# Altium footprint library indic_footp.PcbLib: 13 footprints
Each footprint in its own frame and in the unit in brackets; x right, y up, seen from the top. Pads: shape width x height; smd on the part's side, far side on the other; paste and mask are expansions set on the pad; w line width, h text height; cw(c..) or ccw(c..) is an arc to the next point about the centre after c.
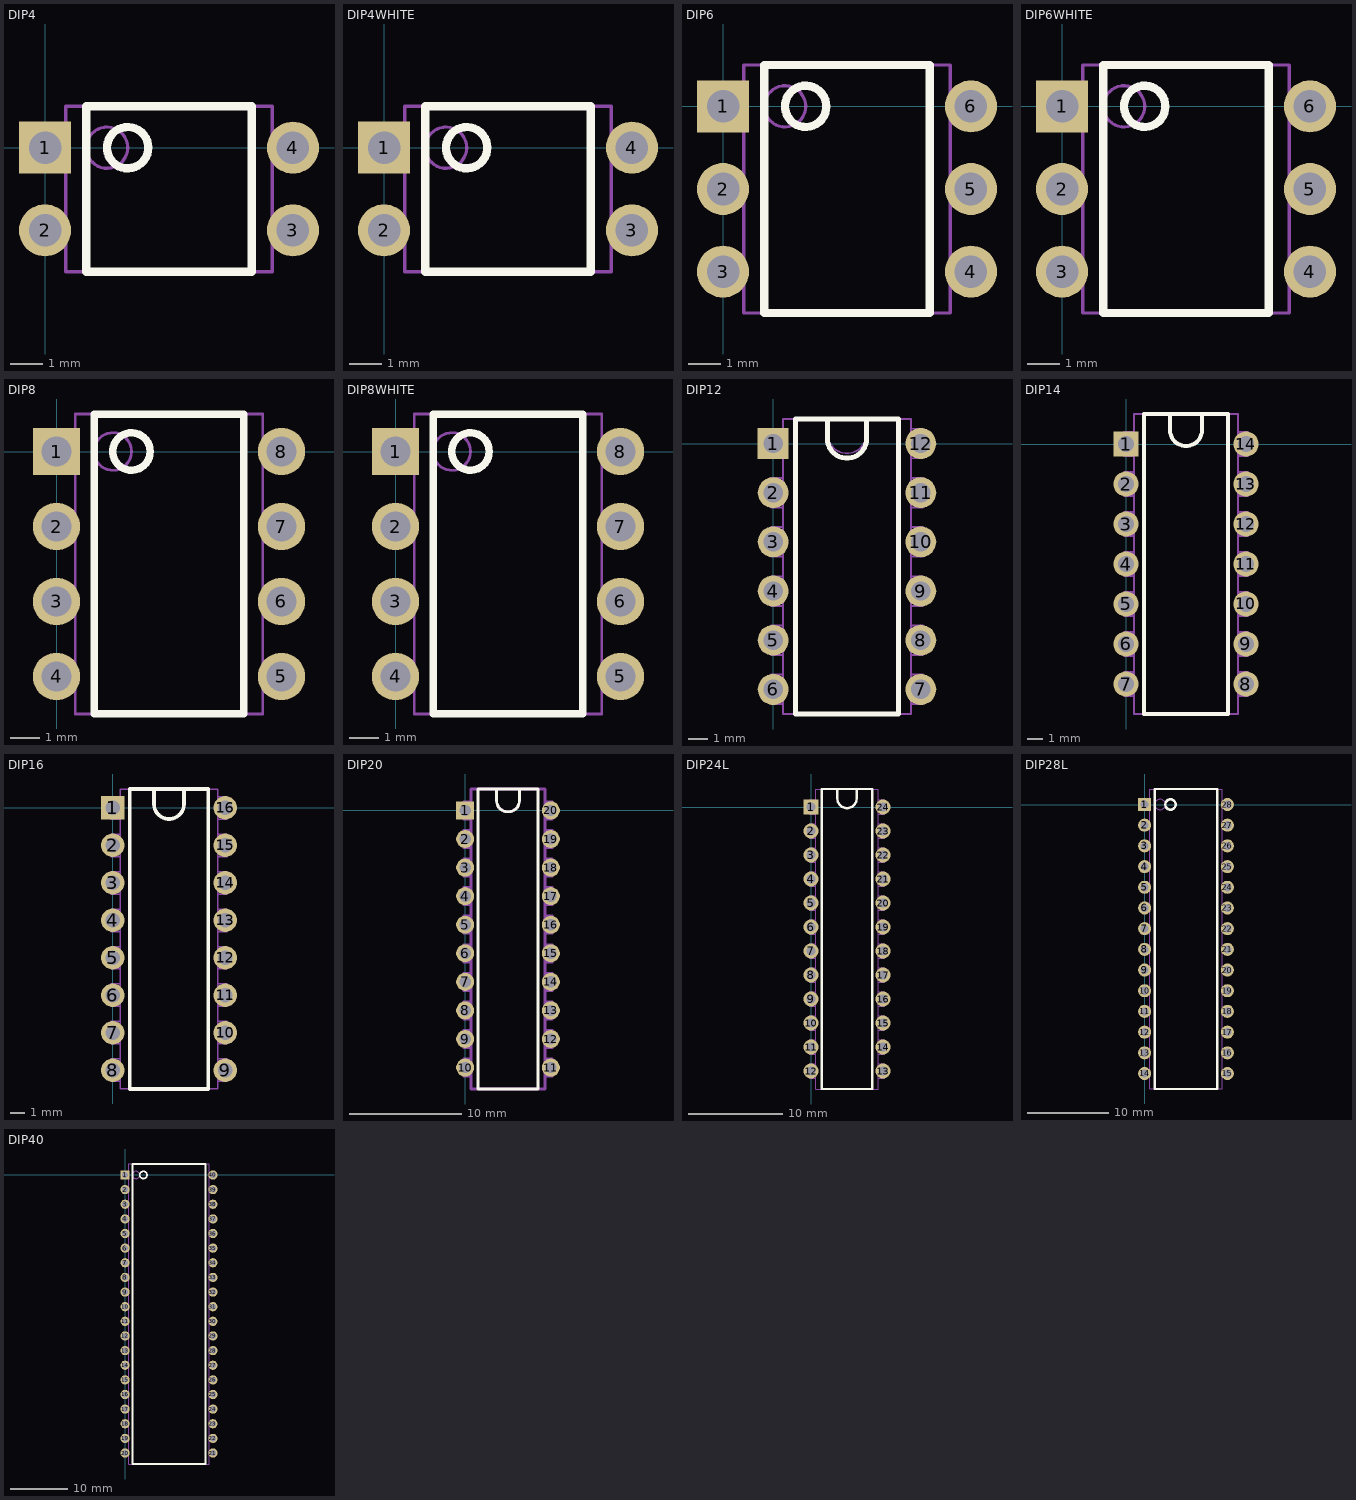
[diagram p0: the footprints below, top view; thin cyan lines are the x and y axes]

## DIP4 [mm]
height 4.6
pads (4):
  rect 1.6x1.6 hole 1: 1(0,0)
  round 1.6 hole 1: 2(0,-2.54) 3(7.62,-2.54) 4(7.62,0)
Top Overlay:
  circle w0.254: c2.54,0 r0.635
  lines w0.254: 1.27,-3.81 6.35,-3.81 6.35,1.27 1.27,1.27 1.27,-3.81
Mechanical 1:
  circle w0.1: c1.905,0 r0.635
  lines w0.1: 0.635,-2.921 0,-2.921 0,-2.159 0.635,-2.159 ; 0.635,-0.381 0,-0.381 0,0.381 0.635,0.381 ; 6.985,-2.921 7.62,-2.921 7.62,-2.159 6.985,-2.159 ; 6.985,-0.381 7.62,-0.381 7.62,0.381 6.985,0.381 ; 0.635,-3.81 6.985,-3.81 6.985,1.27 0.635,1.27 0.635,-3.81
3D body: height 3.2, standoff -3.2, extent -0.2,-0.6 3,0.6
3D body: height 3.2, standoff -3.2, extent -0.2,-3.14 3,-1.94
3D body: height 3.2, standoff -3.2, extent 4.62,-0.6 7.82,0.6
3D body: height 3.2, standoff -3.2, extent 4.62,-3.14 7.82,-1.94
3D body: height 4.5, standoff 1, extent 0.635,-3.683 6.985,1.143

## DIP4WHITE [mm]
height 4.6
pads (4):
  rect 1.6x1.6 hole 1: 1(0,0)
  round 1.6 hole 1: 2(0,-2.54) 3(7.62,-2.54) 4(7.62,0)
Top Overlay:
  circle w0.254: c2.54,0 r0.635
  lines w0.254: 1.27,-3.81 1.27,1.27 6.35,1.27 6.35,-3.81 1.27,-3.81
Mechanical 1:
  circle w0.1: c1.905,0 r0.635
  lines w0.1: 0.635,-2.921 0,-2.921 0,-2.159 0.635,-2.159 ; 0.635,-0.381 0,-0.381 0,0.381 0.635,0.381 ; 6.985,-2.921 7.62,-2.921 7.62,-2.159 6.985,-2.159 ; 6.985,-0.381 7.62,-0.381 7.62,0.381 6.985,0.381 ; 0.635,-3.81 0.635,1.27 6.985,1.27 6.985,-3.81 0.635,-3.81
3D body: height 4.5, standoff 1, extent 0.635,-3.683 6.985,1.143
3D body: height 3.2, standoff -3.2, extent 4.62,-3.14 7.82,-1.94
3D body: height 3.2, standoff -3.2, extent 4.62,-0.6 7.82,0.6
3D body: height 3.2, standoff -3.2, extent -0.2,-3.14 3,-1.94
3D body: height 3.2, standoff -3.2, extent -0.2,-0.6 3,0.6

## DIP6 [mm]
height 4.6
pads (6):
  rect 1.6x1.6 hole 1: 1(0,0)
  round 1.6 hole 1: 2(0,-2.54) 3(0,-5.08) 4(7.62,-5.08) 5(7.62,-2.54) 6(7.62,0)
Top Overlay:
  circle w0.254: c2.54,0 r0.635
  lines w0.254: 1.27,-6.35 6.35,-6.35 6.35,1.27 1.27,1.27 1.27,-6.35
Mechanical 1:
  circle w0.1: c1.905,0 r0.635
  lines w0.1: 0.635,-5.461 0,-5.461 0,-4.699 0.635,-4.699 ; 0.635,-2.921 0,-2.921 0,-2.159 0.635,-2.159 ; 0.635,-0.381 0,-0.381 0,0.381 0.635,0.381 ; 6.985,-5.461 7.62,-5.461 7.62,-4.699 6.985,-4.699 ; 6.985,-2.921 7.62,-2.921 7.62,-2.159 6.985,-2.159 ; 6.985,-0.381 7.62,-0.381 7.62,0.381 6.985,0.381 ; 0.635,-6.35 6.985,-6.35 6.985,1.27 0.635,1.27 0.635,-6.35
3D body: height 3.2, standoff -3.2, extent -0.2,-0.6 3,0.6
3D body: height 3.2, standoff -3.2, extent -0.2,-3.14 3,-1.94
3D body: height 3.2, standoff -3.2, extent -0.2,-5.68 3,-4.48
3D body: height 3.2, standoff -3.2, extent 4.62,-0.6 7.82,0.6
3D body: height 3.2, standoff -3.2, extent 4.62,-3.14 7.82,-1.94
3D body: height 3.2, standoff -3.2, extent 4.62,-5.68 7.82,-4.48
3D body: height 4.5, standoff 1, extent 0.635,-6.35 6.985,1.27

## DIP6WHITE [mm]
height 4.6
pads (6):
  rect 1.6x1.6 hole 1: 1(0,0)
  round 1.6 hole 1: 2(0,-2.54) 3(0,-5.08) 4(7.62,-5.08) 5(7.62,-2.54) 6(7.62,0)
Top Overlay:
  circle w0.254: c2.54,0 r0.635
  lines w0.254: 1.27,-6.35 6.35,-6.35 6.35,1.27 1.27,1.27 1.27,-6.35
Mechanical 1:
  circle w0.1: c1.905,0 r0.635
  lines w0.1: 0.635,-5.461 0,-5.461 0,-4.699 0.635,-4.699 ; 0.635,-2.921 0,-2.921 0,-2.159 0.635,-2.159 ; 0.635,-0.381 0,-0.381 0,0.381 0.635,0.381 ; 6.985,-5.461 7.62,-5.461 7.62,-4.699 6.985,-4.699 ; 6.985,-2.921 7.62,-2.921 7.62,-2.159 6.985,-2.159 ; 6.985,-0.381 7.62,-0.381 7.62,0.381 6.985,0.381 ; 0.635,-6.35 6.985,-6.35 6.985,1.27 0.635,1.27 0.635,-6.35
3D body: height 3.2, standoff -3.2, extent -0.2,-0.6 3,0.6
3D body: height 3.2, standoff -3.2, extent -0.2,-3.14 3,-1.94
3D body: height 3.2, standoff -3.2, extent -0.2,-5.68 3,-4.48
3D body: height 3.2, standoff -3.2, extent 4.62,-0.6 7.82,0.6
3D body: height 3.2, standoff -3.2, extent 4.62,-3.14 7.82,-1.94
3D body: height 3.2, standoff -3.2, extent 4.62,-5.68 7.82,-4.48
3D body: height 4.5, standoff 1, extent 0.635,-6.35 6.985,1.27

## DIP8 [mm]
height 4.6
pads (8):
  rect 1.6x1.6 hole 1: 1(0,0)
  round 1.6 hole 1: 2(0,-2.54) 3(0,-5.08) 4(0,-7.62) 5(7.62,-7.62) 6(7.62,-5.08) 7(7.62,-2.54) 8(7.62,0)
Top Overlay:
  circle w0.254: c2.54,0 r0.635
  lines w0.254: 1.27,-8.89 6.35,-8.89 6.35,1.27 1.27,1.27 1.27,-8.89
Mechanical 1:
  circle w0.1: c1.905,0 r0.635
  lines w0.1: 0.635,-8.001 0,-8.001 0,-7.239 0.635,-7.239 ; 0.635,-5.461 0,-5.461 0,-4.699 0.635,-4.699 ; 0.635,-2.921 0,-2.921 0,-2.159 0.635,-2.159 ; 0.635,-0.381 0,-0.381 0,0.381 0.635,0.381 ; 6.985,-8.001 7.62,-8.001 7.62,-7.239 6.985,-7.239 ; 6.985,-5.461 7.62,-5.461 7.62,-4.699 6.985,-4.699 ; 6.985,-2.921 7.62,-2.921 7.62,-2.159 6.985,-2.159 ; 6.985,-0.381 7.62,-0.381 7.62,0.381 6.985,0.381 ; 0.635,-8.89 6.985,-8.89 6.985,1.27 0.635,1.27 0.635,-8.89
3D body: height 3.2, standoff -3.2, extent -0.2,-0.6 3,0.6
3D body: height 3.2, standoff -3.2, extent -0.2,-3.14 3,-1.94
3D body: height 3.2, standoff -3.2, extent -0.2,-5.68 3,-4.48
3D body: height 3.2, standoff -3.2, extent -0.2,-8.22 3,-7.02
3D body: height 3.2, standoff -3.2, extent 4.62,-0.6 7.82,0.6
3D body: height 3.2, standoff -3.2, extent 4.62,-3.14 7.82,-1.94
3D body: height 3.2, standoff -3.2, extent 4.62,-5.68 7.82,-4.48
3D body: height 3.2, standoff -3.2, extent 4.62,-8.22 7.82,-7.02
3D body: height 4.5, standoff 1, extent 0.635,-8.89 6.985,1.27

## DIP8WHITE [mm]
height 4.6
pads (8):
  rect 1.6x1.6 hole 1: 1(0,0)
  round 1.6 hole 1: 2(0,-2.54) 3(0,-5.08) 4(0,-7.62) 5(7.62,-7.62) 6(7.62,-5.08) 7(7.62,-2.54) 8(7.62,0)
Top Overlay:
  circle w0.254: c2.54,0 r0.635
  lines w0.254: 1.27,-8.89 1.27,1.27 6.35,1.27 6.35,-8.89 1.27,-8.89
Mechanical 1:
  circle w0.1: c1.905,0 r0.635
  lines w0.1: 0.635,-8.001 0,-8.001 0,-7.239 0.635,-7.239 ; 0.635,-5.461 0,-5.461 0,-4.699 0.635,-4.699 ; 0.635,-2.921 0,-2.921 0,-2.159 0.635,-2.159 ; 0.635,-0.381 0,-0.381 0,0.381 0.635,0.381 ; 6.985,-8.001 7.62,-8.001 7.62,-7.239 6.985,-7.239 ; 6.985,-5.461 7.62,-5.461 7.62,-4.699 6.985,-4.699 ; 6.985,-2.921 7.62,-2.921 7.62,-2.159 6.985,-2.159 ; 6.985,-0.381 7.62,-0.381 7.62,0.381 6.985,0.381 ; 0.635,-8.89 0.635,1.27 6.985,1.27 6.985,-8.89 0.635,-8.89
3D body: height 4.5, standoff 1, extent 0.635,-8.89 6.985,1.27
3D body: height 3.2, standoff -3.2, extent 4.62,-8.22 7.82,-7.02
3D body: height 3.2, standoff -3.2, extent 4.62,-5.68 7.82,-4.48
3D body: height 3.2, standoff -3.2, extent 4.62,-3.14 7.82,-1.94
3D body: height 3.2, standoff -3.2, extent 4.62,-0.6 7.82,0.6
3D body: height 3.2, standoff -3.2, extent -0.2,-8.22 3,-7.02
3D body: height 3.2, standoff -3.2, extent -0.2,-5.68 3,-4.48
3D body: height 3.2, standoff -3.2, extent -0.2,-3.14 3,-1.94
3D body: height 3.2, standoff -3.2, extent -0.2,-0.6 3,0.6

## DIP12 [mm]
height 4.6
pads (12):
  rect 1.6x1.6 hole 1: 1(0,0)
  round 1.6 hole 1: 2(0,-2.54) 3(0,-5.08) 4(0,-7.62) 5(0,-10.16) 6(0,-12.7) 7(7.62,-12.7) 8(7.62,-10.16) 9(7.62,-7.62) 10(7.62,-5.08) 11(7.62,-2.54) 12(7.62,0)
Top Overlay:
  lines w0.254: 2.794,1.27 2.794,0.254 ccw(c3.81,0.254) 4.826,0.254 4.826,1.27 ; 1.143,-13.97 6.477,-13.97 6.477,1.27 1.143,1.27 1.143,-13.97
Mechanical 1:
  lines w0.1: 0.508,-13.462 -0.127,-13.462 -0.127,-11.938 0.508,-11.938 ; 0.508,-10.922 -0.127,-10.922 -0.127,-9.398 0.508,-9.398 ; 0.508,-8.382 -0.127,-8.382 -0.127,-6.858 0.508,-6.858 ; 0.508,-5.842 -0.127,-5.842 -0.127,-4.318 0.508,-4.318 ; 0.508,-3.302 -0.127,-3.302 -0.127,-1.778 0.508,-1.778 ; 0.508,-0.762 -0.127,-0.762 -0.127,0.762 0.508,0.762 ; 2.794,0.381 2.794,1.27 ; 2.794,0.508 ccw(c3.81,0.508) 4.826,0.508 ; 4.826,0.381 4.826,1.27 ; 7.112,-13.462 7.747,-13.462 7.747,-11.938 7.112,-11.938 ; 7.112,-10.922 7.747,-10.922 7.747,-9.398 7.112,-9.398 ; 7.112,-8.382 7.747,-8.382 7.747,-6.858 7.112,-6.858 ; 7.112,-5.842 7.747,-5.842 7.747,-4.318 7.112,-4.318 ; 7.112,-3.302 7.747,-3.302 7.747,-1.778 7.112,-1.778 ; 7.112,-0.762 7.747,-0.762 7.747,0.762 7.112,0.762 ; 0.508,-13.97 7.112,-13.97 7.112,1.27 0.508,1.27 0.508,-13.97
3D body: height 3.2, standoff -3.2, extent -0.2,-10.76 3,-9.56
3D body: height 3.2, standoff -3.2, extent -0.2,-13.3 3,-12.1
3D body: height 3.2, standoff -3.2, extent 4.62,-10.76 7.82,-9.56
3D body: height 3.2, standoff -3.2, extent 4.62,-13.3 7.82,-12.1
3D body: height 4.5, standoff 1, extent 0.635,-13.843 6.985,1.143
3D body: height 3.2, standoff -3.2, extent 4.62,-8.22 7.82,-7.02
3D body: height 3.2, standoff -3.2, extent 4.62,-5.68 7.82,-4.48
3D body: height 3.2, standoff -3.2, extent 4.62,-3.14 7.82,-1.94
3D body: height 3.2, standoff -3.2, extent 4.62,-0.6 7.82,0.6
3D body: height 3.2, standoff -3.2, extent -0.2,-8.22 3,-7.02
3D body: height 3.2, standoff -3.2, extent -0.2,-5.68 3,-4.48
3D body: height 3.2, standoff -3.2, extent -0.2,-3.14 3,-1.94
3D body: height 3.2, standoff -3.2, extent -0.2,-0.6 3,0.6

## DIP14 [mm]
height 4.6
pads (14):
  rect 1.6x1.6 hole 1: 1(0,0)
  round 1.6 hole 1: 2(0,-2.54) 3(0,-5.08) 4(0,-7.62) 5(0,-10.16) 6(0,-12.7) 7(0,-15.24) 8(7.62,-15.24) 9(7.62,-12.7) 10(7.62,-10.16) 11(7.62,-7.62) 12(7.62,-5.08) 13(7.62,-2.54) 14(7.62,0)
Top Overlay:
  lines w0.254: 2.794,1.905 2.794,0.889 ccw(c3.81,0.889) 4.826,0.889 4.826,1.905 ; 1.143,-17.145 1.143,1.905 6.477,1.905 6.477,-17.145 1.143,-17.145
Mechanical 1:
  lines w0.1: 0.508,-16.002 -0.127,-16.002 -0.127,-14.478 0.508,-14.478 ; 0.508,-13.462 -0.127,-13.462 -0.127,-11.938 0.508,-11.938 ; 0.508,-10.922 -0.127,-10.922 -0.127,-9.398 0.508,-9.398 ; 0.508,-8.382 -0.127,-8.382 -0.127,-6.858 0.508,-6.858 ; 0.508,-5.842 -0.127,-5.842 -0.127,-4.318 0.508,-4.318 ; 0.508,-3.302 -0.127,-3.302 -0.127,-1.778 0.508,-1.778 ; 0.508,-0.762 -0.127,-0.762 -0.127,0.762 0.508,0.762 ; 2.794,1.905 2.794,0.889 ccw(c3.81,0.889) 4.826,0.889 4.826,1.905 ; 7.112,-16.002 7.747,-16.002 7.747,-14.478 7.112,-14.478 ; 7.112,-13.462 7.747,-13.462 7.747,-11.938 7.112,-11.938 ; 7.112,-10.922 7.747,-10.922 7.747,-9.398 7.112,-9.398 ; 7.112,-8.382 7.747,-8.382 7.747,-6.858 7.112,-6.858 ; 7.112,-5.842 7.747,-5.842 7.747,-4.318 7.112,-4.318 ; 7.112,-3.302 7.747,-3.302 7.747,-1.778 7.112,-1.778 ; 7.112,-0.762 7.747,-0.762 7.747,0.762 7.112,0.762 ; 0.508,-17.145 0.508,1.905 7.112,1.905 7.112,-17.145 0.508,-17.145
3D body: height 3.2, standoff -3.2, extent -0.2,-0.6 3,0.6
3D body: height 3.2, standoff -3.2, extent -0.2,-3.14 3,-1.94
3D body: height 3.2, standoff -3.2, extent -0.2,-5.68 3,-4.48
3D body: height 3.2, standoff -3.2, extent -0.2,-8.22 3,-7.02
3D body: height 3.2, standoff -3.2, extent 4.62,-0.6 7.82,0.6
3D body: height 3.2, standoff -3.2, extent 4.62,-3.14 7.82,-1.94
3D body: height 3.2, standoff -3.2, extent 4.62,-5.68 7.82,-4.48
3D body: height 3.2, standoff -3.2, extent 4.62,-8.22 7.82,-7.02
3D body: height 4.5, standoff 1, extent 0.635,-17.018 6.985,1.778
3D body: height 3.2, standoff -3.2, extent 4.62,-15.84 7.82,-14.64
3D body: height 3.2, standoff -3.2, extent 4.62,-13.3 7.82,-12.1
3D body: height 3.2, standoff -3.2, extent 4.62,-10.76 7.82,-9.56
3D body: height 3.2, standoff -3.2, extent -0.2,-15.84 3,-14.64
3D body: height 3.2, standoff -3.2, extent -0.2,-13.3 3,-12.1
3D body: height 3.2, standoff -3.2, extent -0.2,-10.76 3,-9.56

## DIP16 [mm]
height 4.6
pads (16):
  rect 1.6x1.6 hole 1: 1(0,0)
  round 1.6 hole 1: 2(0,-2.54) 3(0,-5.08) 4(0,-7.62) 5(0,-10.16) 6(0,-12.7) 7(0,-15.24) 8(0,-17.78) 9(7.62,-17.78) 10(7.62,-15.24) 11(7.62,-12.7) 12(7.62,-10.16) 13(7.62,-7.62) 14(7.62,-5.08) 15(7.62,-2.54) 16(7.62,0)
Top Overlay:
  lines w0.254: 2.794,1.27 2.794,0.254 ccw(c3.81,0.254) 4.826,0.254 4.826,1.27 ; 1.143,-19.05 1.143,1.27 6.477,1.27 6.477,-19.05 1.143,-19.05
Mechanical 1:
  lines w0.1: 0.508,-18.542 -0.127,-18.542 -0.127,-17.018 0.508,-17.018 ; 0.508,-16.002 -0.127,-16.002 -0.127,-14.478 0.508,-14.478 ; 0.508,-13.462 -0.127,-13.462 -0.127,-11.938 0.508,-11.938 ; 0.508,-10.922 -0.127,-10.922 -0.127,-9.398 0.508,-9.398 ; 0.508,-8.382 -0.127,-8.382 -0.127,-6.858 0.508,-6.858 ; 0.508,-5.842 -0.127,-5.842 -0.127,-4.318 0.508,-4.318 ; 0.508,-3.302 -0.127,-3.302 -0.127,-1.778 0.508,-1.778 ; 0.508,-0.762 -0.127,-0.762 -0.127,0.762 0.508,0.762 ; 2.794,1.27 2.794,0.254 ccw(c3.81,0.254) 4.826,0.254 4.826,1.27 ; 7.112,-18.542 7.747,-18.542 7.747,-17.018 7.112,-17.018 ; 7.112,-16.002 7.747,-16.002 7.747,-14.478 7.112,-14.478 ; 7.112,-13.462 7.747,-13.462 7.747,-11.938 7.112,-11.938 ; 7.112,-10.922 7.747,-10.922 7.747,-9.398 7.112,-9.398 ; 7.112,-8.382 7.747,-8.382 7.747,-6.858 7.112,-6.858 ; 7.112,-5.842 7.747,-5.842 7.747,-4.318 7.112,-4.318 ; 7.112,-3.302 7.747,-3.302 7.747,-1.778 7.112,-1.778 ; 7.112,-0.762 7.747,-0.762 7.747,0.762 7.112,0.762 ; 0.508,-19.05 0.508,1.27 7.112,1.27 7.112,-19.05 0.508,-19.05
3D body: height 3.2, standoff -3.2, extent -0.2,-0.6 3,0.6
3D body: height 3.2, standoff -3.2, extent -0.2,-3.14 3,-1.94
3D body: height 3.2, standoff -3.2, extent -0.2,-5.68 3,-4.48
3D body: height 3.2, standoff -3.2, extent -0.2,-8.22 3,-7.02
3D body: height 3.2, standoff -3.2, extent 4.62,-0.6 7.82,0.6
3D body: height 3.2, standoff -3.2, extent 4.62,-3.14 7.82,-1.94
3D body: height 3.2, standoff -3.2, extent 4.62,-5.68 7.82,-4.48
3D body: height 3.2, standoff -3.2, extent 4.62,-8.22 7.82,-7.02
3D body: height 4.5, standoff 1, extent 0.635,-19.05 6.985,1.27
3D body: height 3.2, standoff -3.2, extent 4.62,-15.84 7.82,-14.64
3D body: height 3.2, standoff -3.2, extent 4.62,-13.3 7.82,-12.1
3D body: height 3.2, standoff -3.2, extent 4.62,-10.76 7.82,-9.56
3D body: height 3.2, standoff -3.2, extent -0.2,-15.84 3,-14.64
3D body: height 3.2, standoff -3.2, extent -0.2,-13.3 3,-12.1
3D body: height 3.2, standoff -3.2, extent -0.2,-10.76 3,-9.56
3D body: height 3.2, standoff -3.2, extent -0.2,-18.38 3,-17.18
3D body: height 3.2, standoff -3.2, extent 4.62,-18.38 7.82,-17.18

## DIP20 [mm]
height 4.6
pads (20):
  rect 1.6x1.6 hole 1: 1(0,0)
  round 1.6 hole 1: 2(0,-2.54) 3(0,-5.08) 4(0,-7.62) 5(0,-10.16) 6(0,-12.7) 7(0,-15.24) 8(0,-17.78) 9(0,-20.32) 10(0,-22.86) 11(7.62,-22.86) 12(7.62,-20.32) 13(7.62,-17.78) 14(7.62,-15.24) 15(7.62,-12.7) 16(7.62,-10.16) 17(7.62,-7.62) 18(7.62,-5.08) 19(7.62,-2.54) 20(7.62,0)
Top Overlay:
  lines w0.254: 2.794,1.905 2.794,0.889 ccw(c3.81,0.889) 4.826,0.889 4.826,1.905 ; 1.143,-24.765 1.143,1.905 6.477,1.905 6.477,-24.765 1.143,-24.765
Mechanical 1:
  lines w0.254: 0.508,-23.622 -0.127,-23.622 -0.127,-22.098 0.508,-22.098 ; 0.508,-21.082 -0.127,-21.082 -0.127,-19.558 0.508,-19.558 ; 0.508,-18.542 -0.127,-18.542 -0.127,-17.018 0.508,-17.018 ; 0.508,-16.002 -0.127,-16.002 -0.127,-14.478 0.508,-14.478 ; 0.508,-13.462 -0.127,-13.462 -0.127,-11.938 0.508,-11.938 ; 0.508,-10.922 -0.127,-10.922 -0.127,-9.398 0.508,-9.398 ; 0.508,-8.382 -0.127,-8.382 -0.127,-6.858 0.508,-6.858 ; 0.508,-5.842 -0.127,-5.842 -0.127,-4.318 0.508,-4.318 ; 0.508,-3.302 -0.127,-3.302 -0.127,-1.778 0.508,-1.778 ; 0.508,-0.762 -0.127,-0.762 -0.127,0.762 0.508,0.762 ; 2.794,1.905 2.794,0.889 ccw(c3.81,0.889) 4.826,0.889 4.826,1.905 ; 7.112,-23.622 7.747,-23.622 7.747,-22.098 7.112,-22.098 ; 7.112,-21.082 7.747,-21.082 7.747,-19.558 7.112,-19.558 ; 7.112,-18.542 7.747,-18.542 7.747,-17.018 7.112,-17.018 ; 7.112,-16.002 7.747,-16.002 7.747,-14.478 7.112,-14.478 ; 7.112,-13.462 7.747,-13.462 7.747,-11.938 7.112,-11.938 ; 7.112,-10.922 7.747,-10.922 7.747,-9.398 7.112,-9.398 ; 7.112,-8.382 7.747,-8.382 7.747,-6.858 7.112,-6.858 ; 7.112,-5.842 7.747,-5.842 7.747,-4.318 7.112,-4.318 ; 7.112,-3.302 7.747,-3.302 7.747,-1.778 7.112,-1.778 ; 7.112,-0.762 7.747,-0.762 7.747,0.762 7.112,0.762 ; 0.508,-24.765 0.508,1.905 7.112,1.905 7.112,-24.765 0.508,-24.765
3D body: height 3.2, standoff -3.2, extent -0.2,-0.6 3,0.6
3D body: height 3.2, standoff -3.2, extent -0.2,-3.14 3,-1.94
3D body: height 3.2, standoff -3.2, extent -0.2,-5.68 3,-4.48
3D body: height 3.2, standoff -3.2, extent -0.2,-8.22 3,-7.02
3D body: height 3.2, standoff -3.2, extent 4.62,-0.6 7.82,0.6
3D body: height 3.2, standoff -3.2, extent 4.62,-3.14 7.82,-1.94
3D body: height 3.2, standoff -3.2, extent 4.62,-5.68 7.82,-4.48
3D body: height 3.2, standoff -3.2, extent 4.62,-8.22 7.82,-7.02
3D body: height 4.5, standoff 1, extent 0.635,-24.638 6.985,1.778
3D body: height 3.2, standoff -3.2, extent 4.62,-15.84 7.82,-14.64
3D body: height 3.2, standoff -3.2, extent 4.62,-13.3 7.82,-12.1
3D body: height 3.2, standoff -3.2, extent 4.62,-10.76 7.82,-9.56
3D body: height 3.2, standoff -3.2, extent -0.2,-15.84 3,-14.64
3D body: height 3.2, standoff -3.2, extent -0.2,-13.3 3,-12.1
3D body: height 3.2, standoff -3.2, extent -0.2,-10.76 3,-9.56
3D body: height 3.2, standoff -3.2, extent -0.2,-18.38 3,-17.18
3D body: height 3.2, standoff -3.2, extent 4.62,-18.38 7.82,-17.18
3D body: height 3.2, standoff -3.2, extent 4.62,-23.46 7.82,-22.26
3D body: height 3.2, standoff -3.2, extent -0.2,-23.46 3,-22.26
3D body: height 3.2, standoff -3.2, extent -0.2,-20.92 3,-19.72
3D body: height 3.2, standoff -3.2, extent 4.62,-20.92 7.82,-19.72

## DIP24L [mm]
height 4.6
pads (24):
  rect 1.6x1.6 hole 1: 1(0,0)
  round 1.6 hole 1: 2(0,-2.54) 3(0,-5.08) 4(0,-7.62) 5(0,-10.16) 6(0,-12.7) 7(0,-15.24) 8(0,-17.78) 9(0,-20.32) 10(0,-22.86) 11(0,-25.4) 12(0,-27.94) 13(7.62,-27.94) 14(7.62,-25.4) 15(7.62,-22.86) 16(7.62,-20.32) 17(7.62,-17.78) 18(7.62,-15.24) 19(7.62,-12.7) 20(7.62,-10.16) 21(7.62,-7.62) 22(7.62,-5.08) 23(7.62,-2.54) 24(7.62,0)
Top Overlay:
  lines w0.254: 2.794,1.905 2.794,0.889 ccw(c3.81,0.889) 4.826,0.889 4.826,1.905 ; 1.143,-29.845 6.477,-29.845 6.477,1.905 1.143,1.905 1.143,-29.845
Mechanical 1:
  lines w0.1: 0.508,-28.702 -0.127,-28.702 -0.127,-27.178 0.508,-27.178 ; 0.508,-26.162 -0.127,-26.162 -0.127,-24.638 0.508,-24.638 ; 0.508,-23.622 -0.127,-23.622 -0.127,-22.098 0.508,-22.098 ; 0.508,-21.082 -0.127,-21.082 -0.127,-19.558 0.508,-19.558 ; 0.508,-18.542 -0.127,-18.542 -0.127,-17.018 0.508,-17.018 ; 0.508,-16.002 -0.127,-16.002 -0.127,-14.478 0.508,-14.478 ; 0.508,-13.462 -0.127,-13.462 -0.127,-11.938 0.508,-11.938 ; 0.508,-10.922 -0.127,-10.922 -0.127,-9.398 0.508,-9.398 ; 0.508,-8.382 -0.127,-8.382 -0.127,-6.858 0.508,-6.858 ; 0.508,-5.842 -0.127,-5.842 -0.127,-4.318 0.508,-4.318 ; 0.508,-3.302 -0.127,-3.302 -0.127,-1.778 0.508,-1.778 ; 0.508,-0.762 -0.127,-0.762 -0.127,0.762 0.508,0.762 ; 2.794,1.905 2.794,0.889 ccw(c3.81,0.889) 4.826,0.889 4.826,1.905 ; 7.112,-28.702 7.747,-28.702 7.747,-27.178 7.112,-27.178 ; 7.112,-26.162 7.747,-26.162 7.747,-24.638 7.112,-24.638 ; 7.112,-23.622 7.747,-23.622 7.747,-22.098 7.112,-22.098 ; 7.112,-21.082 7.747,-21.082 7.747,-19.558 7.112,-19.558 ; 7.112,-18.542 7.747,-18.542 7.747,-17.018 7.112,-17.018 ; 7.112,-16.002 7.747,-16.002 7.747,-14.478 7.112,-14.478 ; 7.112,-13.462 7.747,-13.462 7.747,-11.938 7.112,-11.938 ; 7.112,-10.922 7.747,-10.922 7.747,-9.398 7.112,-9.398 ; 7.112,-8.382 7.747,-8.382 7.747,-6.858 7.112,-6.858 ; 7.112,-5.842 7.747,-5.842 7.747,-4.318 7.112,-4.318 ; 7.112,-3.302 7.747,-3.302 7.747,-1.778 7.112,-1.778 ; 7.112,-0.762 7.747,-0.762 7.747,0.762 7.112,0.762 ; 0.508,-29.845 7.112,-29.845 7.112,1.905 0.508,1.905 0.508,-29.845
3D body: height 3.2, standoff -3.2, extent 4.62,-20.92 7.82,-19.72
3D body: height 3.2, standoff -3.2, extent -0.2,-20.92 3,-19.72
3D body: height 3.2, standoff -3.2, extent -0.2,-23.46 3,-22.26
3D body: height 3.2, standoff -3.2, extent 4.62,-23.46 7.82,-22.26
3D body: height 3.2, standoff -3.2, extent 4.62,-18.38 7.82,-17.18
3D body: height 3.2, standoff -3.2, extent -0.2,-18.38 3,-17.18
3D body: height 3.2, standoff -3.2, extent -0.2,-10.76 3,-9.56
3D body: height 3.2, standoff -3.2, extent -0.2,-13.3 3,-12.1
3D body: height 3.2, standoff -3.2, extent -0.2,-15.84 3,-14.64
3D body: height 3.2, standoff -3.2, extent 4.62,-10.76 7.82,-9.56
3D body: height 3.2, standoff -3.2, extent 4.62,-13.3 7.82,-12.1
3D body: height 3.2, standoff -3.2, extent 4.62,-15.84 7.82,-14.64
3D body: height 4.5, standoff 1, extent 0.635,-29.718 6.985,1.778
3D body: height 3.2, standoff -3.2, extent 4.62,-8.22 7.82,-7.02
3D body: height 3.2, standoff -3.2, extent 4.62,-5.68 7.82,-4.48
3D body: height 3.2, standoff -3.2, extent 4.62,-3.14 7.82,-1.94
3D body: height 3.2, standoff -3.2, extent 4.62,-0.6 7.82,0.6
3D body: height 3.2, standoff -3.2, extent -0.2,-8.22 3,-7.02
3D body: height 3.2, standoff -3.2, extent -0.2,-5.68 3,-4.48
3D body: height 3.2, standoff -3.2, extent -0.2,-3.14 3,-1.94
3D body: height 3.2, standoff -3.2, extent -0.2,-0.6 3,0.6
3D body: height 3.2, standoff -3.2, extent 4.62,-28.54 7.82,-27.34
3D body: height 3.2, standoff -3.2, extent -0.2,-28.54 3,-27.34
3D body: height 3.2, standoff -3.2, extent -0.2,-26 3,-24.8
3D body: height 3.2, standoff -3.2, extent 4.62,-26 7.82,-24.8

## DIP28L [mm]
height 4.6
pads (28):
  rect 1.6x1.6 hole 1: 1(0,0)
  round 1.6 hole 1: 2(0,-2.54) 3(0,-5.08) 4(0,-7.62) 5(0,-10.16) 6(0,-12.7) 7(0,-15.24) 8(0,-17.78) 9(0,-20.32) 10(0,-22.86) 11(0,-25.4) 12(0,-27.94) 13(0,-30.48) 14(0,-33.02) 15(10.16,-33.02) 16(10.16,-30.48) 17(10.16,-27.94) 18(10.16,-25.4) 19(10.16,-22.86) 20(10.16,-20.32) 21(10.16,-17.78) 22(10.16,-15.24) 23(10.16,-12.7) 24(10.16,-10.16) 25(10.16,-7.62) 26(10.16,-5.08) 27(10.16,-2.54) 28(10.16,0)
Top Overlay:
  circle w0.3: c3.175,0 r0.635
  lines w0.3: 1.27,-34.925 1.27,1.905 8.89,1.905 8.89,-34.925 1.27,-34.925
Mechanical 1:
  circle w0.1: c1.905,0 r0.635
  lines w0.1: 0.635,-33.401 0,-33.401 0,-32.639 0.635,-32.639 ; 0.635,-30.861 0,-30.861 0,-30.099 0.635,-30.099 ; 0.635,-28.321 0,-28.321 0,-27.559 0.635,-27.559 ; 0.635,-25.781 0,-25.781 0,-25.019 0.635,-25.019 ; 0.635,-23.241 0,-23.241 0,-22.479 0.635,-22.479 ; 0.635,-20.701 0,-20.701 0,-19.939 0.635,-19.939 ; 0.635,-18.161 0,-18.161 0,-17.399 0.635,-17.399 ; 0.635,-15.621 0,-15.621 0,-14.859 0.635,-14.859 ; 0.635,-13.081 0,-13.081 0,-12.319 0.635,-12.319 ; 0.635,-10.541 0,-10.541 0,-9.779 0.635,-9.779 ; 0.635,-8.001 0,-8.001 0,-7.239 0.635,-7.239 ; 0.635,-5.461 0,-5.461 0,-4.699 0.635,-4.699 ; 0.635,-2.921 0,-2.921 0,-2.159 0.635,-2.159 ; 0.635,-0.381 0,-0.381 0,0.381 0.635,0.381 ; 9.525,-33.401 10.16,-33.401 10.16,-32.639 9.525,-32.639 ; 9.525,-30.861 10.16,-30.861 10.16,-30.099 9.525,-30.099 ; 9.525,-28.321 10.16,-28.321 10.16,-27.559 9.525,-27.559 ; 9.525,-25.781 10.16,-25.781 10.16,-25.019 9.525,-25.019 ; 9.525,-23.241 10.16,-23.241 10.16,-22.479 9.525,-22.479 ; 9.525,-20.701 10.16,-20.701 10.16,-19.939 9.525,-19.939 ; 9.525,-18.161 10.16,-18.161 10.16,-17.399 9.525,-17.399 ; 9.525,-15.621 10.16,-15.621 10.16,-14.859 9.525,-14.859 ; 9.525,-13.081 10.16,-13.081 10.16,-12.319 9.525,-12.319 ; 9.525,-10.541 10.16,-10.541 10.16,-9.779 9.525,-9.779 ; 9.525,-8.001 10.16,-8.001 10.16,-7.239 9.525,-7.239 ; 9.525,-5.461 10.16,-5.461 10.16,-4.699 9.525,-4.699 ; 9.525,-2.921 10.16,-2.921 10.16,-2.159 9.525,-2.159 ; 9.525,-0.381 10.16,-0.381 10.16,0.381 9.525,0.381 ; 0.635,-34.925 0.635,1.905 9.525,1.905 9.525,-34.925 0.635,-34.925
3D body: height 3.2, standoff -3.2, extent -0.2,-33.62 3,-32.42
3D body: height 3.2, standoff -3.2, extent -0.2,-31.08 3,-29.88
3D body: height 3.2, standoff -3.2, extent -0.2,-26 3,-24.8
3D body: height 3.2, standoff -3.2, extent -0.2,-28.54 3,-27.34
3D body: height 3.2, standoff -3.2, extent -0.2,-0.6 3,0.6
3D body: height 3.2, standoff -3.2, extent -0.2,-3.14 3,-1.94
3D body: height 3.2, standoff -3.2, extent -0.2,-5.68 3,-4.48
3D body: height 3.2, standoff -3.2, extent -0.2,-8.22 3,-7.02
3D body: height 4.5, standoff 1, extent 0.762,-34.798 9.398,1.778
3D body: height 3.2, standoff -3.2, extent -0.2,-15.84 3,-14.64
3D body: height 3.2, standoff -3.2, extent -0.2,-13.3 3,-12.1
3D body: height 3.2, standoff -3.2, extent -0.2,-10.76 3,-9.56
3D body: height 3.2, standoff -3.2, extent -0.2,-18.38 3,-17.18
3D body: height 3.2, standoff -3.2, extent -0.2,-23.46 3,-22.26
3D body: height 3.2, standoff -3.2, extent -0.2,-20.92 3,-19.72
3D body: height 3.2, standoff -3.2, extent 7.16,-20.92 10.36,-19.72
3D body: height 3.2, standoff -3.2, extent 7.16,-23.46 10.36,-22.26
3D body: height 3.2, standoff -3.2, extent 7.16,-18.38 10.36,-17.18
3D body: height 3.2, standoff -3.2, extent 7.16,-10.76 10.36,-9.56
3D body: height 3.2, standoff -3.2, extent 7.16,-13.3 10.36,-12.1
3D body: height 3.2, standoff -3.2, extent 7.16,-15.84 10.36,-14.64
3D body: height 3.2, standoff -3.2, extent 7.16,-8.22 10.36,-7.02
3D body: height 3.2, standoff -3.2, extent 7.16,-5.68 10.36,-4.48
3D body: height 3.2, standoff -3.2, extent 7.16,-3.14 10.36,-1.94
3D body: height 3.2, standoff -3.2, extent 7.16,-0.6 10.36,0.6
3D body: height 3.2, standoff -3.2, extent 7.16,-28.54 10.36,-27.34
3D body: height 3.2, standoff -3.2, extent 7.16,-26 10.36,-24.8
3D body: height 3.2, standoff -3.2, extent 7.16,-31.08 10.36,-29.88
3D body: height 3.2, standoff -3.2, extent 7.16,-33.62 10.36,-32.42

## DIP40 [mm]
height 4.6
pads (40):
  rect 1.6x1.6 hole 1: 1(0,0)
  round 1.6 hole 1: 2(0,-2.54) 3(0,-5.08) 4(0,-7.62) 5(0,-10.16) 6(0,-12.7) 7(0,-15.24) 8(0,-17.78) 9(0,-20.32) 10(0,-22.86) 11(0,-25.4) 12(0,-27.94) 13(0,-30.48) 14(0,-33.02) 15(0,-35.56) 16(0,-38.1) 17(0,-40.64) 18(0,-43.18) 19(0,-45.72) 20(0,-48.26) 21(15.24,-48.26) 22(15.24,-45.72) 23(15.24,-43.18) 24(15.24,-40.64) 25(15.24,-38.1) 26(15.24,-35.56) 27(15.24,-33.02) 28(15.24,-30.48) 29(15.24,-27.94) 30(15.24,-25.4) 31(15.24,-22.86) 32(15.24,-20.32) 33(15.24,-17.78) 34(15.24,-15.24) 35(15.24,-12.7) 36(15.24,-10.16) 37(15.24,-7.62) 38(15.24,-5.08) 39(15.24,-2.54) 40(15.24,0)
Top Overlay:
  circle w0.3: c3.175,0 r0.635
  lines w0.3: 1.27,-50.165 13.97,-50.165 13.97,1.905 1.27,1.905 1.27,-50.165
Mechanical 1:
  circle w0.1: c1.905,0 r0.635
  lines w0.1: 0.635,-48.641 0,-48.641 0,-47.879 0.635,-47.879 ; 0.635,-46.101 0,-46.101 0,-45.339 0.635,-45.339 ; 0.635,-43.561 0,-43.561 0,-42.799 0.635,-42.799 ; 0.635,-41.021 0,-41.021 0,-40.259 0.635,-40.259 ; 0.635,-38.481 0,-38.481 0,-37.719 0.635,-37.719 ; 0.635,-35.941 0,-35.941 0,-35.179 0.635,-35.179 ; 0.635,-33.401 0,-33.401 0,-32.639 0.635,-32.639 ; 0.635,-30.861 0,-30.861 0,-30.099 0.635,-30.099 ; 0.635,-28.321 0,-28.321 0,-27.559 0.635,-27.559 ; 0.635,-25.781 0,-25.781 0,-25.019 0.635,-25.019 ; 0.635,-23.241 0,-23.241 0,-22.479 0.635,-22.479 ; 0.635,-20.701 0,-20.701 0,-19.939 0.635,-19.939 ; 0.635,-18.161 0,-18.161 0,-17.399 0.635,-17.399 ; 0.635,-15.621 0,-15.621 0,-14.859 0.635,-14.859 ; 0.635,-13.081 0,-13.081 0,-12.319 0.635,-12.319 ; 0.635,-10.541 0,-10.541 0,-9.779 0.635,-9.779 ; 0.635,-8.001 0,-8.001 0,-7.239 0.635,-7.239 ; 0.635,-5.461 0,-5.461 0,-4.699 0.635,-4.699 ; 0.635,-2.921 0,-2.921 0,-2.159 0.635,-2.159 ; 0.635,-0.381 0,-0.381 0,0.381 0.635,0.381 ; 14.605,-48.641 15.24,-48.641 15.24,-47.879 14.605,-47.879 ; 14.605,-46.101 15.24,-46.101 15.24,-45.339 14.605,-45.339 ; 14.605,-43.561 15.24,-43.561 15.24,-42.799 14.605,-42.799 ; 14.605,-41.021 15.24,-41.021 15.24,-40.259 14.605,-40.259 ; 14.605,-38.481 15.24,-38.481 15.24,-37.719 14.605,-37.719 ; 14.605,-35.941 15.24,-35.941 15.24,-35.179 14.605,-35.179 ; 14.605,-33.401 15.24,-33.401 15.24,-32.639 14.605,-32.639 ; 14.605,-30.861 15.24,-30.861 15.24,-30.099 14.605,-30.099 ; 14.605,-28.321 15.24,-28.321 15.24,-27.559 14.605,-27.559 ; 14.605,-25.781 15.24,-25.781 15.24,-25.019 14.605,-25.019 ; 14.605,-23.241 15.24,-23.241 15.24,-22.479 14.605,-22.479 ; 14.605,-20.701 15.24,-20.701 15.24,-19.939 14.605,-19.939 ; 14.605,-18.161 15.24,-18.161 15.24,-17.399 14.605,-17.399 ; 14.605,-15.621 15.24,-15.621 15.24,-14.859 14.605,-14.859 ; 14.605,-13.081 15.24,-13.081 15.24,-12.319 14.605,-12.319 ; 14.605,-10.541 15.24,-10.541 15.24,-9.779 14.605,-9.779 ; 14.605,-8.001 15.24,-8.001 15.24,-7.239 14.605,-7.239 ; 14.605,-5.461 15.24,-5.461 15.24,-4.699 14.605,-4.699 ; 14.605,-2.921 15.24,-2.921 15.24,-2.159 14.605,-2.159 ; 14.605,-0.381 15.24,-0.381 15.24,0.381 14.605,0.381 ; 0.635,-50.165 14.605,-50.165 14.605,1.905 0.635,1.905 0.635,-50.165
3D body: height 3.2, standoff -3.2, extent -0.2,-36.16 3,-34.96
3D body: height 3.2, standoff -3.2, extent -0.2,-38.7 3,-37.5
3D body: height 3.2, standoff -3.2, extent -0.2,-43.78 3,-42.58
3D body: height 3.2, standoff -3.2, extent -0.2,-41.24 3,-40.04
3D body: height 3.2, standoff -3.2, extent -0.2,-46.32 3,-45.12
3D body: height 3.2, standoff -3.2, extent -0.2,-48.86 3,-47.66
3D body: height 3.2, standoff -3.2, extent 12.24,-36.16 15.44,-34.96
3D body: height 3.2, standoff -3.2, extent 12.24,-38.7 15.44,-37.5
3D body: height 3.2, standoff -3.2, extent 12.24,-43.78 15.44,-42.58
3D body: height 3.2, standoff -3.2, extent 12.24,-41.24 15.44,-40.04
3D body: height 3.2, standoff -3.2, extent 12.24,-46.32 15.44,-45.12
3D body: height 3.2, standoff -3.2, extent 12.24,-48.86 15.44,-47.66
3D body: height 3.2, standoff -3.2, extent 12.24,-33.62 15.44,-32.42
3D body: height 3.2, standoff -3.2, extent 12.24,-31.08 15.44,-29.88
3D body: height 3.2, standoff -3.2, extent 12.24,-26 15.44,-24.8
3D body: height 3.2, standoff -3.2, extent 12.24,-28.54 15.44,-27.34
3D body: height 3.2, standoff -3.2, extent 12.24,-0.6 15.44,0.6
3D body: height 3.2, standoff -3.2, extent 12.24,-3.14 15.44,-1.94
3D body: height 3.2, standoff -3.2, extent 12.24,-5.68 15.44,-4.48
3D body: height 3.2, standoff -3.2, extent 12.24,-8.22 15.44,-7.02
3D body: height 3.2, standoff -3.2, extent 12.24,-15.84 15.44,-14.64
3D body: height 3.2, standoff -3.2, extent 12.24,-13.3 15.44,-12.1
3D body: height 3.2, standoff -3.2, extent 12.24,-10.76 15.44,-9.56
3D body: height 3.2, standoff -3.2, extent 12.24,-18.38 15.44,-17.18
3D body: height 3.2, standoff -3.2, extent 12.24,-23.46 15.44,-22.26
3D body: height 3.2, standoff -3.2, extent 12.24,-20.92 15.44,-19.72
3D body: height 3.2, standoff -3.2, extent -0.2,-33.62 3,-32.42
3D body: height 3.2, standoff -3.2, extent -0.2,-31.08 3,-29.88
3D body: height 3.2, standoff -3.2, extent -0.2,-26 3,-24.8
3D body: height 3.2, standoff -3.2, extent -0.2,-28.54 3,-27.34
3D body: height 3.2, standoff -3.2, extent -0.2,-0.6 3,0.6
3D body: height 3.2, standoff -3.2, extent -0.2,-3.14 3,-1.94
3D body: height 3.2, standoff -3.2, extent -0.2,-5.68 3,-4.48
3D body: height 3.2, standoff -3.2, extent -0.2,-8.22 3,-7.02
3D body: height 4.5, standoff 1, extent 0.762,-50.038 14.478,1.778
3D body: height 3.2, standoff -3.2, extent -0.2,-15.84 3,-14.64
3D body: height 3.2, standoff -3.2, extent -0.2,-13.3 3,-12.1
3D body: height 3.2, standoff -3.2, extent -0.2,-10.76 3,-9.56
3D body: height 3.2, standoff -3.2, extent -0.2,-18.38 3,-17.18
3D body: height 3.2, standoff -3.2, extent -0.2,-23.46 3,-22.26
3D body: height 3.2, standoff -3.2, extent -0.2,-20.92 3,-19.72